# EAGLE library part 7P_ZIF_59453-071110EDHLF (library CYCFI_Con)
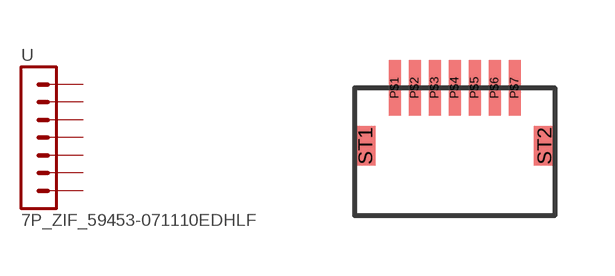
[diagram p20: symbol with the pads of 7P_ZIF_59453-071110EDHLF; footprint 7P_ZIF_59453-071110EDHLF]

Designator prefix -

## 7P_ZIF_59453-071110EDHLF  [7P_ZIF_59453-071110EDHLF]
P$1  1  pas
P$2  2  pas
P$3  3  pas
P$4  4  pas
P$5  5  pas
P$6  6  pas
P$7  7  pas

## Footprint 7P_ZIF_59453-071110EDHLF (pad centres in mm)
smd 0.3 x 1.4: P$1 -1.5,1.6; P$2 -1,1.6; P$3 -0.5,1.6; P$4 0,1.6; P$5 0.5,1.6; P$6 1,1.6; P$7 1.5,1.6
smd 0.52 x 1: ST1 -2.24,0.15; ST2 2.24,0.15